# Altium footprint library Connector - XH-2.54.PcbLib: 5 footprints
Each footprint in its own frame and in the unit in brackets; x right, y up, seen from the top. Pads: shape width x height; smd on the part's side, far side on the other; paste and mask are expansions set on the pad; w line width, h text height; cw(c..) or ccw(c..) is an arc to the next point about the centre after c.
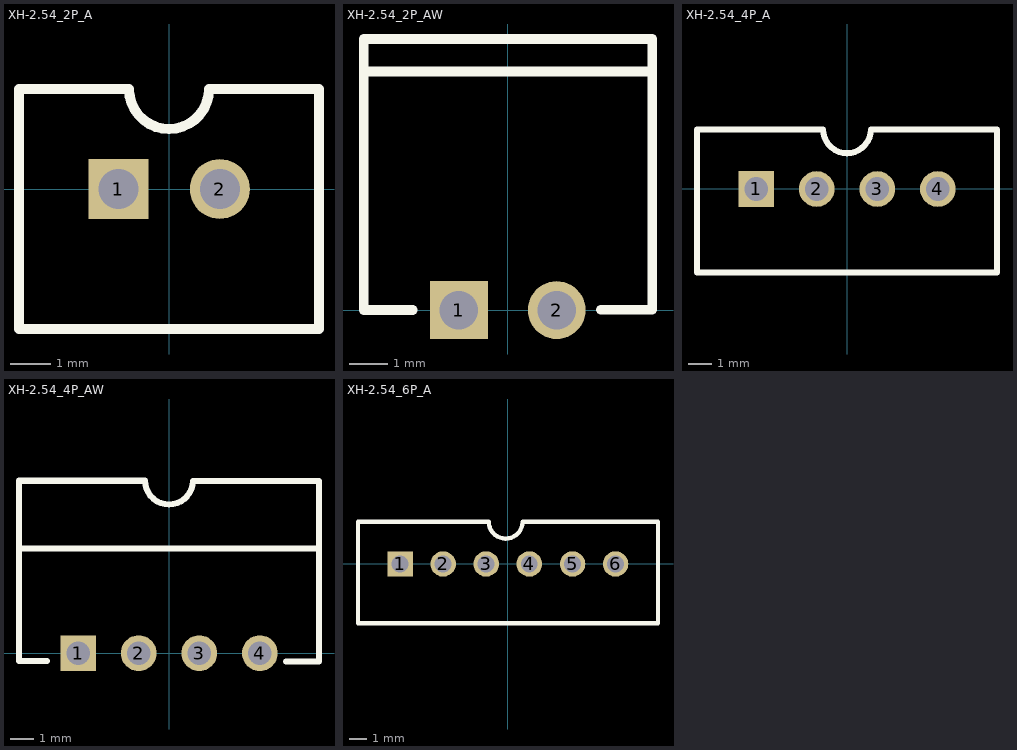
[diagram p0: the footprints below, top view; thin cyan lines are the x and y axes]

## XH-2.54_2P_A [mm]
pads (2):
  rect 1.5x1.5 hole 1: 1(-1.27,0)
  round 1.5 hole 1: 2(1.27,0)
Top Overlay:
  lines w0.254: -3.755,-3.495 -3.755,2.5 -1.011,2.5 ; -3.75,-3.5 3.75,-3.5 3.75,2.5 0.998,2.5 cw(c-0.002,2.5) -1.002,2.492
3D body "User Library-XH2_54_ZC_2P.step": height 7, standoff -4, extent -3.7,-3.378 3.7,2.422

## XH-2.54_2P_AW [mm]
pads (2):
  rect 1.5x1.5 hole 1: 1(-1.27,0)
  round 1.5 hole 1: 2(1.27,0)
Top Overlay:
  lines w0.254: -3.65,6.19 3.744,6.19 ; -2.466,0.003 -3.74,0.003 -3.74,7.036 3.75,7.036 3.75,0.01 2.411,0.01
3D body "User Library-JST-XH-2_5mm-2.step": height 6, standoff -3.3, extent -3.75,-0.422 3.75,7.218

## XH-2.54_4P_A [mm]
pads (4):
  rect 1.5x1.5 hole 1: 1(-3.81,0)
  round 1.5 hole 1: 2(-1.27,0) 3(1.27,0) 4(3.81,0)
Top Overlay:
  lines w0.254: -6.295,-3.496 -6.295,2.499 -1,2.499 ccw(c0,2.499) 1,2.492 6.288,2.492 ; -6.29,-3.501 6.295,-3.501 6.295,2.499

## XH-2.54_4P_AW [mm]
pads (4):
  rect 1.5x1.5 hole 1: 1(-3.81,0)
  round 1.5 hole 1: 2(-1.27,0) 3(1.27,0) 4(3.81,0)
Top Overlay:
  lines w0.254: -6.244,4.394 6.248,4.394 ; -5.131,-0.33 -6.295,-0.33 -6.295,7.239 -5.74,7.239 -1,7.239 ccw(c0,7.239) 1,7.232 5.739,7.232 6.295,7.232 6.295,-0.356 ; 4.902,-0.356 6.248,-0.356
3D body "User Library-XH2_54-4P-AW.step": height 5.9, standoff -3, extent -6.225,-0.321 6.275,7.279

## XH-2.54_6P_A [mm]
pads (6):
  rect 1.5x1.5 hole 1: 1(-6.356,0)
  round 1.5 hole 1: 2(-3.816,0) 3(-1.276,0) 4(1.264,0) 5(3.816,0) 6(6.356,0)
Top Overlay:
  lines w0.254: -8.841,-3.496 -8.841,2.499 -1.149,2.499 ; -8.836,-3.501 8.858,-3.501 8.858,2.492 0.87,2.492 ; -1.13,2.497 ccw(c-0.13,2.497) 0.87,2.489